# Altium schematic symbol library ESP32-HWE-Dev_1.SCHLIB: 16 symbols
Pins are listed as number, name and electrical type; pins without a type are passive.

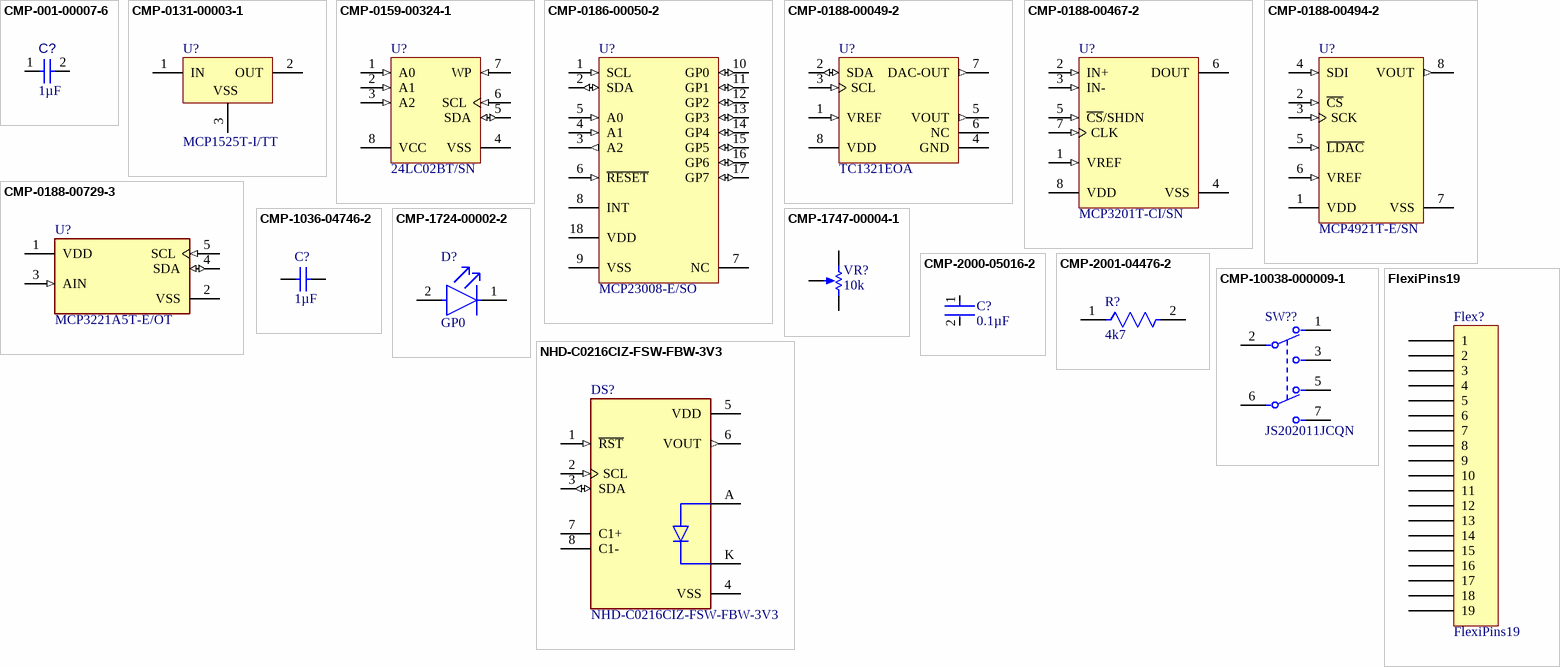
[diagram p0: symbols CMP-001-00007-6 to NHD-C0216CIZ-FSW-FBW-3V3]

## CMP-001-00007-6
designator C?, comment value 1µF  (hidden comment: Capacitor 1 uF +/- 10% 50 V 0805)
Chip Capacitor, 1 uF, +/- 10%, 50 V, 0805 (2012 Metric); Manufacturer: TDK; Manufacturer Part Number: C2012X7R1H105K125AB; Manufacturer: Murata; Manufacturer Part Number: GRM21BR71H105KA12L; Manufacturer: Kyocera AVX; Manufacturer Part Number: 08055C105KAT2A; Capacitor Type: Ceramic; Voltage Rating: 50V; Min Operating Temperature: -55°C; RoHS Compliant: True; Mounting Technology: SM; Case/Package: 0805; Max Operating Temperature: 125°C; Tolerance: 10%; Pins: 2; Component Type: Capacitors
footprint CAPC2013X135X45NL10T25 (Chip Capacitor, 2-Leads, Body 2.10x1.35mm, IPC Medium Density)
footprint CAPC2013X135X45LL10T25 (Chip Capacitor, 2-Leads, Body 2.10x1.35mm, IPC High Density)
footprint CAPC2013X135X45ML10T25 (Chip Capacitor, 2-Leads, Body 2.10x1.35mm, IPC Low Density)
pins: 1, 2

## CMP-0131-00003-1
designator U?, comment MCP1525T-I/TT
2.5V Voltage Reference, 3-Pin SOT-23, Industrial Temperature, Tape and Reel; Manufacturer: Microchip; DatasheetVersion: revB, Feb-2005; Code_IPC: SOT23-3; PackageDescription: 3-Lead Plastic Small Outline Transistor (TT) [SOT-23]; PackageReference: SOT-23-TT3; PackageVersion: revBB, Aug-2009; Manufacturer Part Number: MCP1525T-I/TT
footprint SOT-23-TT3_M (SOT23, 3-Leads, Body 2.9x1.3mm, Pitch 0.95mm, Lead Span 2.4mm, IPC Low Density)
footprint SOT-23-TT3_N (SOT23, 3-Leads, Body 2.9x1.3mm, Pitch 0.95mm, Lead Span 2.4mm, IPC Medium Density)
footprint SOT-23-TT3_L (SOT23, 3-Leads, Body 2.9x1.3mm, Pitch 0.95mm, Lead Span 2.4mm, IPC High Density)
pins: 1 IN (power), 2 OUT (power), 3 VSS (power)

## CMP-0159-00324-1
designator U?, comment 24LC02BT/SN
2Kbit, 400kHz, 2.5V, I2C Serial EEPROM, 8-Pin SOIC 150mil, Commercial Temperature, Tape and Reel; Manufacturer: Microchip; Code_JEDEC: MS-012; PackageVersion: revBB, Aug-2009; DatasheetVersion: revJ, Feb-2009; PackageDescription: 8-Lead Plastic Small Outline (SN) - Narrow, 3.90mm Body [SOIC]; PackageReference: SOIC-SN8; Code_IPC: SOIC127P600-8; Manufacturer Part Number: 24LC02BT/SN
footprint SOIC-SN8_N (SOIC, 8-Leads, Body 4.9x3.8mm, Pitch 1.27mm, IPC Medium Density)
footprint SOIC-SN8_M (SOIC, 8-Leads, Body 4.9x3.8mm, Pitch 1.27mm, IPC Low Density)
footprint SOIC-SN8_L (SOIC, 8-Leads, Body 4.9x3.8mm, Pitch 1.27mm, IPC High Density)
pins: 1 A0 (in), 2 A1 (in), 3 A2 (in), 4 VSS (power), 5 SDA (io), 6 SCL (in), 7 WP (in), 8 VCC (power)

## CMP-0186-00050-2
designator U?, comment MCP23008-E/SO
8-Bit I/O Expander with Serial Interface, 18-Pin SOIC, Extended Temperature; Manufacturer: Microchip; PackageDescription: 18-Lead Plastic Small Outline (SO) - Wide 7.50mm Body [SOIC]; ComponentLink3Description: Package Specification; ComponentLink2Description: Datasheet; ComponentLink2URL: http://ww1.microchip.com/downloads/en/DeviceDoc/21919e.pdf; RevisionNote: URLs added.; ComponentLink1URL: http://www.microchip.com/; ComponentLink3URL: http://www.microchip.com/stellent/groups/techpub_sg/documents/packagingspec/en012702.pdf; ComponentLink1Description: Manufacturer URL; PackageReference: SOIC-SO18; DatasheetVersion: revE, Aug-2007; PackageVersion: revBB, Aug-2009; Code_JEDEC: MS-013; Manufacturer Part Number: MCP23008-E/SO
footprint SOIC-SO18_N (SOIC, 18-Leads, Body 11.5x7.5mm, Pitch 1.27mm, IPC Medium Density)
footprint SOIC-SO18_M (SOIC, 18-Leads, Body 11.5x7.5mm, Pitch 1.27mm, IPC Low Density)
footprint SOIC-SO18_L (SOIC, 18-Leads, Body 11.5x7.5mm, Pitch 1.27mm, IPC High Density)
pins: 1 SCL (in), 2 SDA (io), 3 A2 (out), 4 A1 (in), 5 A0 (in), 6 ~{RESET} (in), 7 NC, 8 INT (oc), 9 VSS (power), 10 GP0 (io), 11 GP1 (io), 12 GP2 (io), 13 GP3 (io), 14 GP4 (io), 15 GP5 (io), 16 GP6 (io), 17 GP7 (io), 18 VDD (power)

## CMP-0188-00049-2
designator U?, comment TC1321EOA
10-Bit Digital-to-Analog Converter with Two-Wire Interface, 8-Pin SOIC 150mil, Extended Temperature; Manufacturer: Microchip; ComponentLink3URL: http://www.microchip.com/stellent/groups/techpub_sg/documents/packagingspec/en012702.pdf; ComponentLink2Description: Datasheet; ComponentLink1Description: Manufacturer URL; Code_IPC: SOIC127P600-8; ComponentLink2URL: http://ww1.microchip.com/downloads/en/DeviceDoc/21387C.pdf; PackageReference: SOIC-OA8; RevisionNote: URLs added. DatasheetVersion updated.; ComponentLink1URL: http://www.microchip.com/; DatasheetVersion: revC, Nov-2010; PackageVersion: revBB, Aug-2009; PackageDescription: 8-Lead Plastic Small Outline (OA) - Narrow, 3.90mm Body [SOIC]; ComponentLink3Description: Package Specification; Manufacturer Part Number: TC1321EOA
footprint SOIC-OA8_L (SOIC, 8-Leads, Body 4.9x3.9mm, Pitch 1.27mm, IPC High Density)
footprint SOIC-OA8_N (SOIC, 8-Leads, Body 4.9x3.9mm, Pitch 1.27mm, IPC Medium Density)
footprint SOIC-OA8_M (SOIC, 8-Leads, Body 4.9x3.9mm, Pitch 1.27mm, IPC Low Density)
pins: 1 VREF (in), 2 SDA (io), 3 SCL (in), 4 GND (power), 5 VOUT (out), 6 NC, 7 DAC-OUT (out), 8 VDD (power)

## CMP-0188-00467-2
designator U?, comment MCP3201T-CI/SN
2.7V 12-Bit A/D Converter with SPI Serial Interface, 8-Pin SOIC 150mil, C Performance Grade, Industrial Temperature, Tape and Reel; Manufacturer: Microchip; RevisionNote: URLs added. DatasheetVersion updated.; PackageVersion: revBB, Aug-2009; ComponentLink2URL: http://ww1.microchip.com/downloads/en/DeviceDoc/21290F.pdf; DatasheetVersion: revF, Aug-2011; ComponentLink1URL: http://www.microchip.com/; Code_IPC: SOIC127P600-8; ComponentLink1Description: Manufacturer URL; ComponentLink3Description: Package Specification; PackageReference: SOIC-SN8; ComponentLink3URL: http://www.microchip.com/stellent/groups/techpub_sg/documents/packagingspec/en012702.pdf; PackageDescription: 8-Lead Plastic Small Outline (SN) - Narrow, 3.90mm Body [SOIC]; Code_JEDEC: MS-012; ComponentLink2Description: Datasheet; Manufacturer Part Number: MCP3201T-CI/SN
footprint SOIC-SN8_M (SOIC, 8-Leads, Body 4.9x3.8mm, Pitch 1.27mm, IPC Low Density)
footprint SOIC-SN8_N (SOIC, 8-Leads, Body 4.9x3.8mm, Pitch 1.27mm, IPC Medium Density)
footprint SOIC-SN8_L (SOIC, 8-Leads, Body 4.9x3.8mm, Pitch 1.27mm, IPC High Density)
pins: 1 VREF (in), 2 IN+ (in), 3 IN- (in), 4 VSS (power), 5 ~{CS}/SHDN (in), 6 DOUT (hiz), 7 CLK (in), 8 VDD (power)

## CMP-0188-00494-2
designator U?, comment MCP4921T-E/SN
12-Bit DAC with SPI Interface, 8-Pin SOIC 150mil, Extended Temperature, Tape and Reel; Manufacturer: Microchip; DatasheetVersion: revA, Apr-2010; RevisionNote: URLs added. DatasheetVersion updated. Sch updated.; ComponentLink2Description: Datasheet; ComponentLink3Description: Package Specification; ComponentLink1Description: Manufacturer URL; ComponentLink2URL: http://ww1.microchip.com/downloads/en/DeviceDoc/22248a.pdf; PackageDescription: 8-Lead Plastic Small Outline (SN) - Narrow, 3.90mm Body [SOIC]; PackageVersion: revBB, Aug-2009; Code_JEDEC: MS-012; Code_IPC: SOIC127P600-8; ComponentLink1URL: http://www.microchip.com/; PackageReference: SOIC-SN8; ComponentLink3URL: http://www.microchip.com/stellent/groups/techpub_sg/documents/packagingspec/en012702.pdf; Manufacturer Part Number: MCP4921T-E/SN
footprint SOIC-SN8_L (SOIC, 8-Leads, Body 4.9x3.8mm, Pitch 1.27mm, IPC High Density)
footprint SOIC-SN8_N (SOIC, 8-Leads, Body 4.9x3.8mm, Pitch 1.27mm, IPC Medium Density)
footprint SOIC-SN8_M (SOIC, 8-Leads, Body 4.9x3.8mm, Pitch 1.27mm, IPC Low Density)
pins: 1 VDD (power), 2 ~{CS} (in), 3 SCK (in), 4 SDI (in), 5 ~{LDAC} (in), 6 VREF (in), 7 VSS (power), 8 VOUT (out)

## CMP-0188-00729-3
designator U?, comment MCP3221A5T-E/OT
IC ADC 12BIT SAR SOT23-5; Manufacturer: Microchip; Number of Bits: 12; Number of Analog Inputs: 1; Min Supply Voltage: 2.7V; Integral Nonlinearity (INL): 2LSB; Sampling Rate: 22.3KS/s; Polarity: Unipolar; Interface: I2C; Max Supply Voltage: 5.5V; Resolution: 12b; Nominal Supply Current: 175uA; REACH SVHC: No SVHC; Packaging: Tape and Reel; Height: 1.3mm; Number of Channels: 1; Max Operating Temperature: 125°C; Mount: Surface Mount; Width: 1.8mm; Lead Free: Lead Free; Length: 3.1mm; Number of A/D Converters: 1; Number of Inputs: 1; Case/Package: SOT-23; Package Quantity: 3000; Conversion Rate: 22.3KS/s; Number of Converters: 1; Number of Elements: 1; Min Operating Temperature: -40°C; Number of Pins: 5; Termination: SMD/SMT; Radiation Hardening: No; Manufacturer Part Number: MCP3221A5T-E/OT
footprint FP-C04-091-OT-IPC_A
footprint FP-C04-091-OT-IPC_C
footprint FP-C04-091-OT-MFG
footprint FP-C04-091-OT-IPC_B
pins: 1 VDD (power), 2 VSS (power), 3 AIN (in), 4 SDA (io), 5 SCL (in)

## CMP-1036-04746-2
designator C?, comment 1µF
Manufacturer: Kemet; Part Number: C0805C105K4PACTU; Manufacturer: TDK; Manufacturer Part Number: C2012X5R1C105K/1.25; Manufacturer: Murata; Manufacturer Part Number: GRM21BR71C105KA01L; Manufacturer Part Number: C0805C105K4RAC; Manufacturer: Kyocera AVX; Manufacturer Part Number: 0805YD105KAT2A; Manufacturer Part Number: C0805C105K4PAC; Manufacturer: Vishay Vitramon; Manufacturer Part Number: VJ0805Y105KXJTW1BC; Manufacturer Part Number: C2012X5R1C105K/0.85; Manufacturer: Yageo; Manufacturer Part Number: CC0805KKX5R7BB105; Manufacturer: Vishay; Manufacturer Part Number: VJ0805Y105KXJRW1BC; Manufacturer Part Number: 0805YD105KAT4A; Manufacturer Part Number: C0805C105K4RACTM; Manufacturer Part Number: 0805YC105KAT2A; Manufacturer Part Number: C0805C105K4RACTU; Manufacturer Part Number: C2012X7R1C105K/0.85; Manufacturer Part Number: CC0805KKX7R7BB105; Manufacturer Part Number: C2012X7R1C105K/1.25; Manufacturer Part Number: 0805YC105KAT4A; Manufacturer: KEMET; Manufacturer Part Number: C0805C105K4PACTU
footprint CAPC2013X145X50LL20T25 (Chip Capacitor, 2-Leads, Body 2.00x1.25mm, IPC High Density)
footprint CAPC2013X145X50NL20T25 (Chip Capacitor, 2-Leads, Body 2.00x1.25mm, IPC Medium Density)
footprint CAPC2013X145X50ML20T25 (Chip Capacitor, 2-Leads, Body 2.00x1.25mm, IPC Low Density)
pins: 1, 2
1 alternate drawing of the same symbol

## CMP-1724-00002-2
designator D?, comment GP0
LED RED DIFFUSED SMD; Manufacturer: Lumex; Manufacturer Part Number: SML-LXT0805IW-TR; Lens Style: Rectangular; Luminous Intensity: 11mcd; Approvals: UL; Test Current: 20mA; Forward Voltage: 2V; Number of LEDs: 1; Wavelength: 635nm; Lens Color: White; Viewing Angle: 140°; Min Operating Temperature: -25°C; Case Code (Metric): 2012; Mount: Surface Mount; Case Code (Imperial): 0805; Height: 0.8mm; Lead Free: Lead Free; Color: Red; Package Quantity: 1; Illumination Color: Red; Lens Transparency: Diffused; Forward Current: 20mA; Packaging: Tape and Reel; Length: 2mm; Case/Package: 0805; REACH SVHC: No SVHC; Width: 1.25mm; Number of Pins: 2; Max Operating Temperature: 80°C; Dominant Wavelength: 635nm
footprint FP-SML-LXT0805IW-TR-MFG
pins: 1 C, 2 A

## CMP-1747-00004-1
designator VR?, comment 10k
Square Trimpot(R) Trimming Potentiometer, 10 KOhm, 300 V, -55 to 125 degC, 3-Pin THD, RoHS, Tube; Manufacturer: Bourns; Manufacturer Part Number: 3362P-1-103LF; Voltage Rating: 220 mV; Power Rating: 1 W; Tolerance: 1%; Resistance: 50 mohm; Case/Package: 1206; Length: 3.2 mm; RoHSCompliant: True; PackageDescription: 3-Pin Through Hole Device, Body 6.6 x 6.99 mm, Pitch 2.54 mm; ComponentLink2Description: Datasheet; REACH SVHC: No SVHC; Mount: Surface Mount; Height: 0.6 mm; Packaging: Tape and Reel; ComponentLink1URL: http://www.bourns.com/; Case Code (Imperial): 0612; Pins: 2; Case Code (Metric): 1632; ComponentLink2URL: http://www.bourns.com/docs/Product-Datasheets/3362.pdf; Min Operating Temperature: -25degC; ComponentLink1Description: Manufacturer URL; PackageReference: 3326P; Max Operating Temperature: 125degC; Width: 1.6 mm; Package Quantity: 5000; DatasheetVersion: May-16
footprint BOUR-3362P (THD, 3-Leads, Body 6.6x6.99mm, Pitch 2.54mm)
pins: 1 CCW, 2 S, 3 CW

## CMP-2000-05016-2
designator C?, comment 0.1µF
General Purpose Ceramic Capacitor, 0805, 100nF, 10%, X7R, 0.15, 50V; Manufacturer: Kyocera AVX; Manufacturer Part Number: 08055C104KAT2A; Dissipation Factor: 2.5%; Insulation Resistance: 100GR; Voltage Rating (DC): 50V; Package Quantity: 4000; Tolerance: 10%; Voltage Rating: 50V; Dielectric: X7R; Case/Package: 0805; Lead Free: Lead Free; Dielectric Material: Ceramic; Thickness: 0.037inch; Weight: 0.001411oz; Max Operating Temperature: 125°C; REACH SVHC: No SVHC; Mount: Surface Mount; RoHS Compliant: Yes; Depth: 1.25mm; Height: 0.5mm; Case Code (Metric): 2012; Length: 2mm; Termination: Standard; Case Code (Imperial): 0805; Number of Pins: 2; Voltage: 50V; Radiation Hardening: No; Min Operating Temperature: -55°C; Capacitance: 100nF; Width: 1.2mm; Series: MLCC X7R; Packaging: Cut Tape
footprint FP-0805-L_2_01_0_2-W_1_25-IPC_C
footprint FP-0805-L_2_01_0_2-W_1_25-IPC_B
footprint FP-0805-L_2_01_0_2-W_1_25-IPC_A
footprint FP-0805-L_2_01_0_2-W_1_25-MFG
pins: 1, 2

## CMP-2001-04476-2
designator R?, comment 4k7
RES SMD 4.7K OHM 5% 1/8W 0805; Manufacturer: Yageo; Manufacturer Part Number: AC0805JR-074K7L; Tolerance: 0.05; Value: 4.7KΩ; Voltage Rating: 150V; Automotive Grade: Grade 0; ComponentLink2URL: http://www.yageo.com/documents/recent/PYu-AC_51_RoHS_L_6.pdf; Power Rating: 1/8W; Package: AC0805; Mouser Description: Thick Film Resistors - SMD 1/8W 4.7K ohm 5% AEC-Q200; Height: 0.6mm; Device Class L2: Resistors; ComponentLink2Description: Datasheet; Series: AC; RoHS: TRUE; Resistance: 4.7KΩ; Digikey Description: RES SMD 4.7K OHM 5% 1/8W 0805; Lead Free: Yes; Category: Res; Temperature Range Low: -55°C; Temperature Range High: +155°C; Composition: Thick Film; Device Class L3: Chip SMD Resistors; Device Class L1: Passive Components; Automotive: Yes; Octopart: https://octopart.com/ac0805jr-074k7l-yageo-26638632; Temperature: -55°C to +155°C; Ipc Land Pattern Name: RESC200125X50; Footprint Url: http://www.yageo.com/exep/pages/download/literatures/PYu-R_Mount_10.pdf
footprint FP-AC0805-MFG
footprint FP-AC0805-IPC_C
footprint FP-AC0805-IPC_B
footprint FP-AC0805-IPC_A
pins: 1, 2

## CMP-10038-000009-1
designator SW??, comment JS202011JCQN
SWITCH SLIDE DPDT 300MA 6V; Manufacturer: ITT C&K; Actuator Material: Nylon; Actuator Length: 2mm; Actuator Type: Standard; Electrical Life: 5000Cycles; Switch Function: On-On; Mount: Surface Mount; Current Rating: 300mA; Contact Material: Copper Alloy; Voltage Rating (DC): 6V; Throw Configuration: DPDT; Packaging: Cut Tape; Contact Plating: Silver; Min Operating Temperature: -40°C; Switch Travel: 2mm; Max Operating Temperature: 85°C; Manufacturer Part Number: JS202011JCQN
footprint FP-JS202011JCQN-MFG
pins: 1, 2 1 C, 3, 5, 6 2 C, 7

## FlexiPins19
designator Flex?
footprint FlexiPins19
pins: 1, 2, 3, 4, 5, 6, 7, 8, 9, 10, 11, 12, 13, 14, 15, 16, 17, 18, 19

## NHD-C0216CIZ-FSW-FBW-3V3
designator DS?
Character Display FSTN Transflective 16Char x 2Line 8-Pin; MF: {'manufacturer': u'Newhaven'}; Package: None; Price: None; Value: *; MP: NHD-C0216CIZ-FSW-FBW-3V3; Availability: Unavailable; ComponentLink1Description: Datasheet; ComponentLink1URL: https://s3.amazonaws.com/snapeda/datasheet/NHD-C0216CIZ-FSW-FBW-3V3_Newhaven.pdf
footprint LCD_NHD-C0216CIZ-FSW-FBW-3V3
pins: 1 ~{RST} (in), 2 SCL (in), 3 SDA (io), 4 VSS (power), 5 VDD (power), 6 VOUT (out), 7 C1+, 8 C1-, A, K